# EAGLE library part ACDA56-51SYKWA (library hmcfabstudio)
Kingright ACDA56-51SYKWA Common Anode Datasheet <http://www.kingbrightusa.com/images/catalog/SPEC/ACDA56-51SYKWA.pdf>
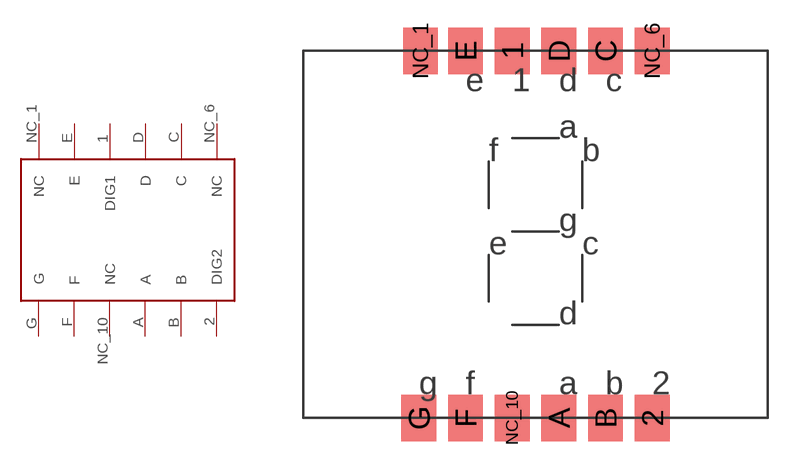
[diagram p14: symbol with the pads of 2DIG_7SEG_SMD_DISP; footprint 2DIG_7SEG_SMD_DISP]

Designator prefix -

## ACDA56-51SYKWA  [2DIG_7SEG_SMD_DISP]
1  DIG1
2  DIG2
A  A
B  B
C  C
D  D
E  E
F  F
G  G
NC_1  NC  nc
NC_6  NC  nc
NC_10  NC  nc

## Footprint 2DIG_7SEG_SMD_DISP (pad centres in mm)
smd 1.9 x 2.54: 1 5.08,20; 2 12.7,0; A 7.62,0; B 10.16,0; C 10.16,20; D 7.62,20; E 2.54,20; F 2.54,0; G 0,0; NC_1 0.09,20; NC_6 12.7,20; NC_10 5.08,0